# EAGLE library part LTC1042 (library specialparts)
Analog Comparator Linear Technologoies LTC1042
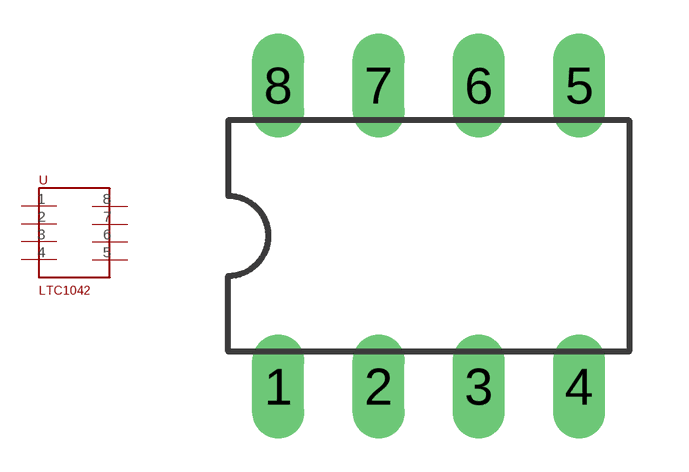
[diagram p4: symbol with the pads of DIP8; footprint DIP8]

Designator prefix -

## LTC1042  [DIP8]
1  WITHIN-WINDOW
2  CENTER
3  VIN
4  GND
5  WIDTH/2
6  ABOVE-WINDOW
7  OSC
8  V+

## Footprint DIP8 (pad centres in mm)
drill 0.813 long: 1 -1.27,-2.54; 2 1.27,-2.54; 3 3.81,-2.54; 4 6.35,-2.54; 5 6.35,5.08; 6 3.81,5.08; 7 1.27,5.08; 8 -1.27,5.08